# Altium schematic symbol library 1N4007FL.SchLib: 1 symbol
Pins are listed as number, name and electrical type; pins without a type are passive.

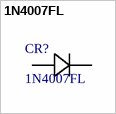
[diagram p0: symbol 1N4007FL]

## 1N4007FL
designator CR?
Description; Manufacturer_Name: SMC Diode Solutions; Copyright: Copyright (C) 2025 Ultra Librarian. All rights reserved.; Manufacturer_Part_Number: 1N4007FL
footprint CR_SOD-123FL_SME
pins: 1 CATHODE, 2 ANODE